# Altium integrated library AhalTech BMS.IntLib: 45 symbols (part 4 of 4)
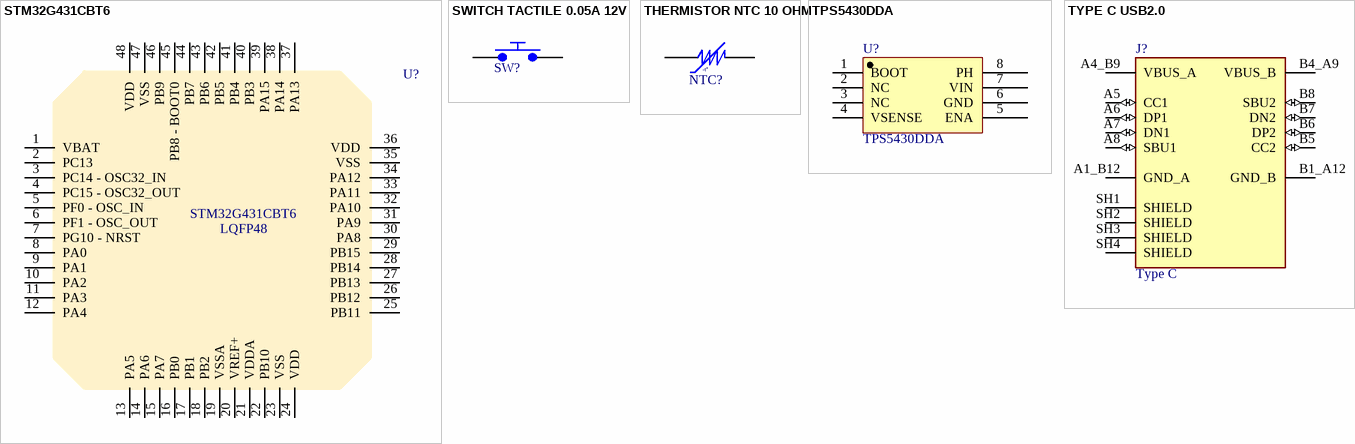
[diagram p4: symbols STM32G431CBT6 to TYPE C USB2.0]

## TPS5430DDA
designator U?
5.5V to 36V Input, 3A, 500kHz Step-Down Converter 8-SO PowerPAD 0 to 0; Manufacturer: Texas Instruments; Manufacturer Lifecycle Status: ACTIVE; Efficiency: 95%; Frequency: 600kHz; Max Duty Cycle: 89%; Max Junction Temperature (Tj): 125°C; Max Output Voltage: 31V; Min Output Voltage: 1.22V; Nominal Supply Current: 3mA; Number of Channels: 1; Output Type: Adjustable; Synchronous Rectifier: No; Topology: Buck; Supplier: Arrow Electronics; Manufacturer Part Number: TPS5430DDA; RoHS: Compliant; Category: Voltage Regulators - Switching; Stock: 65; Pricing: 1=3,964, 10=2,831 (USD); Case/Package: SOIC; Height: 1.7mm; Lead Free: Lead Free; Length: 4.89mm; Lifecycle Status: Production; Max Supply Voltage: 36V; Max Operating Temperature: 125°C; Max Output current: 3A; Min Input Voltage: 5.5V; Min Operating Temperature: -40°C; Min Supply Voltage: 5.5V; Mounting Technology: Surface Mount; Number of Outputs: 1; Pins: 8; Operating Supply Voltage: 36V; Output Current: 3A; Output Voltage: 31V; Quiescent Current: 3mA; Radiation Hardening: No; REACH SVHC: No; Schedule B: 8542390000, 8542390000|8542390000|8542390000|8542390000|8542390000|8542390000|8542390000|8542390000|8542390000|8542390000|8542390000|8542390000|8542390000|8542390000|8542390000|8542390000|8542390000|8542390000|8542390000|8542390000|8542390000|8542390000|8542390000|85; Switching Frequency: 500kHz; Thickness: 1.48mm; Weight: 70.590313mg; Width: 3.9mm; ComponentLink1URL: https://sigma.octopart.com:443/104526336/technical_drawing/Texas-Instruments-TPS5430DDA.pdf?src-supplier=Texas+Instruments; ComponentLink1Description: https://sigma.octopart.com:443/104526336/technical_drawing/Texas-Instruments-TPS5430DDA.pdf?src-supplier=Texas+Instruments; ComponentLink2URL: https://octopart.com:443/opatz8j6/c1?t=cQwpT0IAjSvIeJNymzR49Ha4c8-Jw2GT8njN-4Wya_e5nsqySIYXgLxhkt0Jd4x2pizck7_uu0HpZBw0JIFNfGGHRxe2c5Q7M53Cns2xcEWVPkypOPmOnsio6HGwNRmBpO-tMX1aZ7VXmPql3w2aNZ9NhKChGGzvfC2q8bq69m3tcrhUwZqRyTiP4V9FR-DzuPaqnEQMs9yZrbpgcvLaaD0vy6xkV0-8W_9Zwu7IarCKUSxbgWNR-blL30e4x9bwSFN6WJrXrHFDNBoVcqvo5cL7ylo3HUXX5OruNdVRWvfm9UQ8Yujwri02A_A1AhmI0qVpc6YNiv36RxOftZXveUNmTKoyiKy0CBBmk6sHc2xMuj3RoS5LRI_jl5pMJHu_-RE&src-supplier=Texas+Instruments; ComponentLink2Description: https://octopart.com:443/opatz8j6/c1?t=cQwpT0IAjSvIeJNymzR49Ha4c8-Jw2GT8njN-4Wya_e5nsqySIYXgLxhkt0Jd4x2pizck7_uu0HpZBw0JIFNfGGHRxe2c5Q7M53Cns2xcEWVPkypOPmOnsio6HGwNRmBpO-tMX1aZ7VXmPql3w2aNZ9NhKChGGzvfC2q8bq69m3tcrhUwZqRyTiP4V9FR-DzuPaqnEQMs9yZrbpgcvLaaD0vy6xkV0-8W_9Zwu7IarCKUSxbgWNR-blL30e4x9bwSFN6WJrXrHFDNBoVcqvo5cL7ylo3HUXX5OruNdVRWvfm9UQ8Yujwri02A_A1AhmI0qVpc6YNiv36RxOftZXveUNmTKoyiKy0CBBmk6sHc2xMuj3RoS5LRI_jl5pMJHu_-RE&src-supplier=Texas+Instruments; ComponentLink3URL: https://datasheet.octopart.com:443/TPS5430DDA-Texas-Instruments-datasheet-34154659.pdf?src-supplier=Texas+Instruments; ComponentLink3Description: https://datasheet.octopart.com:443/TPS5430DDA-Texas-Instruments-datasheet-34154659.pdf?src-supplier=Texas+Instruments; ComponentLink4URL: https://datasheet.octopart.com:443/TPS5430DDA-Texas-Instruments-datasheet-17423535.pdf?src-supplier=Texas+Instruments; ComponentLink4Description: https://datasheet.octopart.com:443/TPS5430DDA-Texas-Instruments-datasheet-17423535.pdf?src-supplier=Texas+Instruments; ComponentLink5URL: https://datasheet.octopart.com:443/TPS5430DDA-Texas-Instruments-datasheet-13479706.pdf?src-supplier=Texas+Instruments; ComponentLink5Description: https://datasheet.octopart.com:443/TPS5430DDA-Texas-Instruments-datasheet-13479706.pdf?src-supplier=Texas+Instruments; ComponentLink6URL: https://sigma.octopart.com:443/49250132/technical_drawing/Texas-Instruments-TPS5430DDA.pdf?src-supplier=Texas+Instruments; ComponentLink6Description: https://sigma.octopart.com:443/49250132/technical_drawing/Texas-Instruments-TPS5430DDA.pdf?src-supplier=Texas+Instruments; ComponentLink7URL: https://datasheet.octopart.com:443/TPS5430DDA-Texas-Instruments-datasheet-10258285.pdf?src-supplier=Texas+Instruments; ComponentLink7Description: https://datasheet.octopart.com:443/TPS5430DDA-Texas-Instruments-datasheet-10258285.pdf?src-supplier=Texas+Instruments; ComponentLink8URL: https://datasheet.octopart.com:443/TPS5430DDA-Texas-Instruments-datasheet-151806.pdf?src-supplier=Texas+Instruments; ComponentLink8Description: https://datasheet.octopart.com:443/TPS5430DDA-Texas-Instruments-datasheet-151806.pdf?src-supplier=Texas+Instruments; ComponentLink9URL: https://datasheet.octopart.com:443/TPS5430DDA-Texas-Instruments-datasheet-136392.pdf?src-supplier=Texas+Instruments; ComponentLink9Description: https://datasheet.octopart.com:443/TPS5430DDA-Texas-Instruments-datasheet-136392.pdf?src-supplier=Texas+Instruments; ComponentLink10URL: https://datasheet.octopart.com:443/TPS5430DDA-Texas-Instruments-datasheet-37140813.pdf?src-supplier=element14+APAC; ComponentLink10Description: https://datasheet.octopart.com:443/TPS5430DDA-Texas-Instruments-datasheet-37140813.pdf?src-supplier=element14+APAC; ComponentLink11URL: https://datasheet.octopart.com:443/TPS5430DDA-Texas-Instruments-datasheet-66810009.pdf?src-supplier=element14+APAC; ComponentLink11Description: https://datasheet.octopart.com:443/TPS5430DDA-Texas-Instruments-datasheet-66810009.pdf?src-supplier=element14+APAC; ComponentLink12URL: https://datasheet.octopart.com:443/TPS5430DDA.-Texas-Instruments-datasheet-62292585.pdf?src-supplier=element14+APAC; ComponentLink12Description: https://datasheet.octopart.com:443/TPS5430DDA.-Texas-Instruments-datasheet-62292585.pdf?src-supplier=element14+APAC; ComponentLink13URL: https://datasheet.octopart.com:443/TPS5430DDA.-Texas-Instruments-datasheet-32026778.pdf?src-supplier=element14+APAC; ComponentLink13Description: https://datasheet.octopart.com:443/TPS5430DDA.-Texas-Instruments-datasheet-32026778.pdf?src-supplier=element14+APAC; ComponentLink14URL: https://datasheet.octopart.com:443/TPS5430DDA-Texas-Instruments-datasheet-21262768.pdf?src-supplier=element14+APAC; ComponentLink14Description: https://datasheet.octopart.com:443/TPS5430DDA-Texas-Instruments-datasheet-21262768.pdf?src-supplier=element14+APAC; ComponentLink15URL: https://datasheet.octopart.com:443/TPS5430DDA-Texas-Instruments-datasheet-14439094.pdf?src-supplier=Upverter; ComponentLink15Description: https://datasheet.octopart.com:443/TPS5430DDA-Texas-Instruments-datasheet-14439094.pdf?src-supplier=Upverter; ComponentLink16URL: https://datasheet.octopart.com:443/TPS5430DDA-Texas-Instruments-datasheet-23715064.pdf?src-supplier=Newark; ComponentLink16Description: https://datasheet.octopart.com:443/TPS5430DDA-Texas-Instruments-datasheet-23715064.pdf?src-supplier=Newark; ComponentLink17URL: https://datasheet.octopart.com:443/TPS5430DDA-Texas-Instruments-datasheet-11761703.pdf?src-supplier=Newark; ComponentLink17Description: https://datasheet.octopart.com:443/TPS5430DDA-Texas-Instruments-datasheet-11761703.pdf?src-supplier=Newark; ComponentLink18URL: https://datasheet.octopart.com:443/TPS5430DDA-Texas-Instruments-datasheet-14167055.pdf?src-supplier=iiiC; ComponentLink18Description: https://datasheet.octopart.com:443/TPS5430DDA-Texas-Instruments-datasheet-14167055.pdf?src-supplier=iiiC; ComponentLink19URL: https://datasheet.octopart.com:443/TPS5430DDA-Texas-Instruments-datasheet-8428127.pdf?src-supplier=Jameco; ComponentLink19Description: https://datasheet.octopart.com:443/TPS5430DDA-Texas-Instruments-datasheet-8428127.pdf?src-supplier=Jameco; ComponentLink20URL: http://sigma.octopart.com:80/reach_statement/Texas-Instruments-company-64.pdf?src-supplier=Compliance+Statements; ComponentLink20Description: http://sigma.octopart.com:80/reach_statement/Texas-Instruments-company-64.pdf?src-supplier=Compliance+Statements; ComponentLink21URL: http://sigma.octopart.com:80/conflict_mineral_statement/Texas-Instruments-company-63.pdf?src-supplier=Compliance+Statements; ComponentLink21Description: http://sigma.octopart.com:80/conflict_mineral_statement/Texas-Instruments-company-63.pdf?src-supplier=Compliance+Statements; Supplier Part Number: TPS5430DDA
footprint 8SOPWR
pins: 1 BOOT, 2 NC, 3 NC, 4 VSENSE, 5 ENA, 6 GND, 7 VIN, 8 PH

## TYPE C USB2.0
designator J?, comment Model: Type C  (hidden comment: GSB1C41110SSHR)
USB-C (USB TYPE-C) USB 2.0 Receptacle Connector 24 (16+8 Dummy) Position Surface Mount, Right Angle; Through Hole; Manufacturer: Amphenol; Supplier: Arrow Electronics; Supplier Part Number: GSB1C41110SSHR; Manufacturer Part Number: GSB1C41110SSHR; Category: Connectors; Pricing: 8000=0,2931, 16000=0,29, 24000=0,287, 40000=0,284, 48000=0,282, 96000=0,279, 120000=0,276, 200000=0,273, 240000=0,27 (USD)
footprint TYPE-C (GSB1C41110SSHR)
pins: A1_B12 GND_A (power), A4_B9 VBUS_A (power), A5 CC1 (io), A6 DP1 (io), A7 DN1 (io), A8 SBU1 (io), B1_A12 GND_B (power), B4_A9 VBUS_B (power), B5 CC2 (io), B6 DP2 (io), B7 DN2 (io), B8 SBU2 (io), SH1 SHIELD, SH2 SHIELD, SH3 SHIELD, SH4 SHIELD